# EAGLE library part TCKE812NA,RF (library TCKE812NA_RF)
Hot Swap Voltage Controllers 15.1V VOLTAGE CLMP AUTO RETRY Source: Datasheet <https://www.arrow.com/en/products/tcke812narf/toshiba>
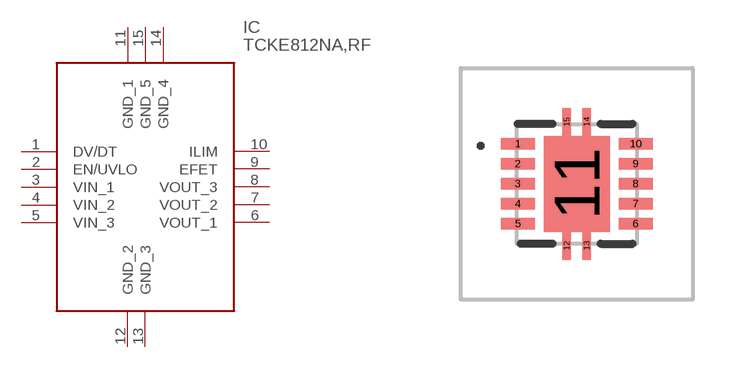
[diagram p0: symbol with the pads of TCKE812NARF; footprint TCKE812NARF]

Designator prefix IC

## TCKE812NA,RF (Description: Hot Swap Voltage Controllers 15.1V VOLTAGE CLMP AUTO RETRY; Height: 0.75mm; Manufacturer_Name: Toshiba; Manufacturer_Part_Number: TCKE812NA,RF; Mouser_Part_Number: 757-TCKE812NA,RF; Mouser_Price-Stock: https://www.mouser.co.uk/ProductDetail/Toshiba/TCKE812NARF?qs=7MVldsJ5UazIz%2F5VEH%2F60g%3D%3D)  [TCKE812NARF]
1  DV/DT
2  EN/UVLO
3  VIN_1
4  VIN_2
5  VIN_3
6  VOUT_1
7  VOUT_2
8  VOUT_3
9  EFET
10  ILIM
11  GND_1
12  GND_2
13  GND_3
14  GND_4
15  GND_5

## Footprint TCKE812NARF (pad centres in mm)
WSON10B_2021_1
smd 0.85 x 0.28: 1 -1.475,1; 2 -1.475,0.5; 3 -1.475,0; 4 -1.475,-0.5; 5 -1.475,-1; 6 1.475,-1; 7 1.475,-0.5; 8 1.475,0; 9 1.475,0.5; 10 1.475,1
smd 1.65 x 2.4: 11 0,0
smd 0.22 x 0.7: 12 -0.25,-1.55; 13 0.25,-1.55; 14 0.25,1.55; 15 -0.25,1.55